# EAGLE library part MMA8491_QFN12 (library Freescale_Sensors_v2)
Xtrinsic MMA8491Q 3-Axis, 14-bit Digital Accelerometer 12-LEAD QFN 3 mm x 3 mm x 1 mm 0.65 mm Pitch CASE 2169-02 http://cache.freescale.com/files/sensors/doc/data_sheet/MMA8491Q.pdf
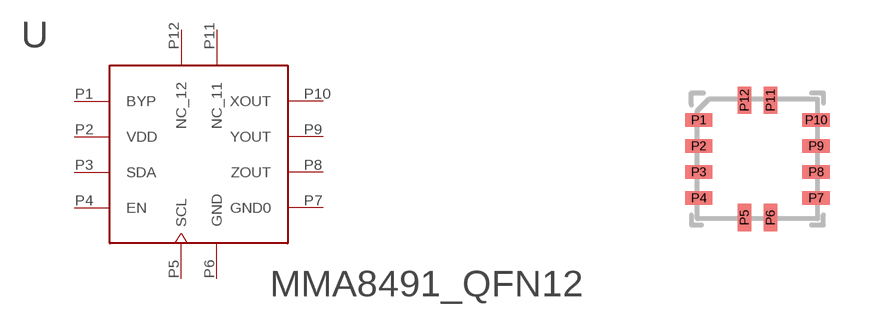
[diagram p5: symbol with the pads of QFN12; footprint QFN12]

Designator prefix -

## MMA8491_QFN12  [QFN12]
P1  BYP
P2  VDD
P3  SDA
P4  EN
P5  SCL
P6  GND
P7  GND0
P8  ZOUT
P9  YOUT
P10  XOUT
P11  NC_11
P12  NC_12

## Footprint QFN12 (pad centres in mm)
smd 0.686 x 0.33: P1 -1.468,0.975; P2 -1.468,0.325; P3 -1.468,-0.325; P4 -1.468,-0.975; P7 1.468,-0.975; P8 1.468,-0.325; P9 1.468,0.325; P10 1.468,0.975
smd 0.33 x 0.686: P5 -0.325,-1.468; P6 0.325,-1.468; P11 0.325,1.468; P12 -0.325,1.468